# Altium schematic symbol library Inductor.SchLib: 2 symbols
Pins are listed as number, name and electrical type; pins without a type are passive.

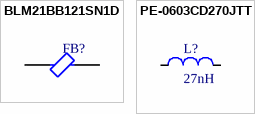
[diagram p0: symbols BLM21BB121SN1D to PE-0603CD270JTT]

## BLM21BB121SN1D
designator FB?, comment 120Ω  (value not drawn)
FERRITE BEAD SMD 0805, 120Ω/100MHz, DC_RES=0.19Ω, 600mA; Manufacturer: Murata; Manufacturer Part Number: BLM21BB121SN1D; Material: Steel,Ferrite; Tolerance: 25%; Impedance: 120R; Number of Lines: 1; DC Resistance (DCR): 190mR; Max DC Current: 200mA; Test Frequency: 100MHz; Shielding: Unshielded; DC Resistance-Max: 250mR; Supplier 1: Mouser; RoHS: Yes; Category: Ferrite Beads and Chips; Stock 1: 377; Pricing 1: 1=0,15, 10=0,1, 50=0,1, 100=0,069, 1000=0,042, 10000=0,037 (USD); Case/Package: 0805; Pins: 2; Core Material: Ferrite; Case Code (Metric): 2012; Case Code (Imperial): 0805; Weight: 0.000194oz; Min Operating Temperature: -55°C; Max Operating Temperature: 125°C; Package Quantity: 1; Packaging: Tape and Reel; Current Rating: 600mA; Max Current Rating: 600mA; Termination: SMD/SMT; Frequency: 100MHz; Number of Circuits: 1; Series: BLM21B; Length: 2mm; Width: 1.25mm; Height: 0.85mm; Depth: 1.45mm; Reach SVHC Compliant: No; Lead Free: Lead Free; RoHS Compliant: Yes; ComponentLink1URL: https://datasheet.ciiva.com/11800/0900766b81275df9-11800837.pdf?src-supplier=Rs; ComponentLink1Description: https://datasheet.ciiva.com/11800/0900766b81275df9-11800837.pdf?src-supplier=Rs; ComponentLink2URL: https://datasheet.ciiva.com/41449/001172337-da-01-en-drossel-0805-120r-2-0x1-25mm-4000st-41449654.pdf?src-supplier=Conrad; ComponentLink2Description: https://datasheet.ciiva.com/41449/001172337-da-01-en-drossel-0805-120r-2-0x1-25mm-4000st-41449654.pdf?src-supplier=Conrad; ComponentLink3URL: https://datasheet.ciiva.com/16420/l0110s0100blm21b-16420733.pdf?src-supplier=Future+Electronics; ComponentLink3Description: https://datasheet.ciiva.com/16420/l0110s0100blm21b-16420733.pdf?src-supplier=Future+Electronics; ComponentLink4URL: https://datasheet.ciiva.com/8021/5159-8021526.pdf?src-supplier=Element14; ComponentLink4Description: https://datasheet.ciiva.com/8021/5159-8021526.pdf?src-supplier=Element14; ComponentLink5URL: https://datasheet.ciiva.com/1012/l0110s0100blm21b-1012662.pdf?src-supplier=Digi-Key; ComponentLink5Description: https://datasheet.ciiva.com/1012/l0110s0100blm21b-1012662.pdf?src-supplier=Digi-Key; ComponentLink6URL: https://datasheet.ciiva.com/1012/l0110s0100blm21b-1012663.pdf?src-supplier=Digi-Key; ComponentLink6Description: https://datasheet.ciiva.com/1012/l0110s0100blm21b-1012663.pdf?src-supplier=Digi-Key; ComponentLink7URL: https://datasheet.ciiva.com/1012/l0110s0100blm21b-1012664.pdf?src-supplier=Digi-Key; ComponentLink7Description: https://datasheet.ciiva.com/1012/l0110s0100blm21b-1012664.pdf?src-supplier=Digi-Key; ComponentLink8URL: https://datasheet.ciiva.com/3082/l0110s0100blm21b-3082737.pdf?src-supplier=Avnet; ComponentLink8Description: https://datasheet.ciiva.com/3082/l0110s0100blm21b-3082737.pdf?src-supplier=Avnet; Supplier 2: Digi-Key; Supplier 3: Digi-Key; Supplier Part Number 1: 81-BLM21B121S; Supplier Part Number 2: 490-1042-6-ND; Supplier Part Number 3: 490-1042-1-ND
footprint 0805-IND
pins: 1, 2

## PE-0603CD270JTT
designator L?, comment 27nH
Inductor RF Chip Wirewound 27nH 5% 250MHz 35Q-Factor Ceramic 600mA 220mOhm DCR 0603 T/R; Manufacturer: Pulse; Manufacturer Part Number: PE-0603CD270JTT; Self Resonant Frequency: 2.8GHz; Shielding: Unshielded; Q Factor: 35; DC Resistance (DCR): 220mR; Supplier 1: Mouser; RoHS: Yes; Category: Fixed Inductors; Stock 1: 11114; Pricing 1: 1=0,4, 10=0,268, 50=0,268, 100=0,223, 1000=0,161, 10000=0,128 (USD); Mounting Technology: Surface Mount; Case/Package: 0603; Case Code (Metric): 1608; Case Code (Imperial): 0603; Weight: 7.1E-05oz; Core Material: Ceramic; Min Operating Temperature: -40°C; Max Operating Temperature: 125°C; Package Quantity: 2000; Packaging: Tape and Reel; Tolerance: 5%; Current Rating: 600mA; Value: 27nH; Max DC Current: 600mA; Termination: SMD/SMT; Test Frequency: 250MHz; Series: 0603CD; Length: 0.071inch; Width: 0.049inch; Height: 0.64mm; Height - Seated (Max): 0.04inch; Depth: 1.24mm; Radiation Hardening: No; Lead Free: Lead Free; RoHS Compliant: Yes; ComponentLink1URL: https://datasheet.ciiva.com/3867/41750067s7463805n6149-3867141.pdf?src-supplier=Arrow+Electronics; ComponentLink1Description: https://datasheet.ciiva.com/3867/41750067s7463805n6149-3867141.pdf?src-supplier=Arrow+Electronics; ComponentLink2URL: https://datasheet.ciiva.com/48683/+wc701-48683258.pdf?src-supplier=Avnet; ComponentLink2Description: https://datasheet.ciiva.com/48683/+wc701-48683258.pdf?src-supplier=Avnet; Supplier 2: Digi-Key; Supplier 3: Digi-Key; Supplier Part Number 2: 553-1022-1-ND; Supplier Part Number 3: 553-1022-6-ND; Supplier Part Number 1: 673-PE-0603CD270JT
footprint PE-0603CD270JTT
footprint 0805-IND
pins: 1, 2